# EAGLE library part MIC2026 (library BaseApp)
Digikey No:- __576-2137-ND__
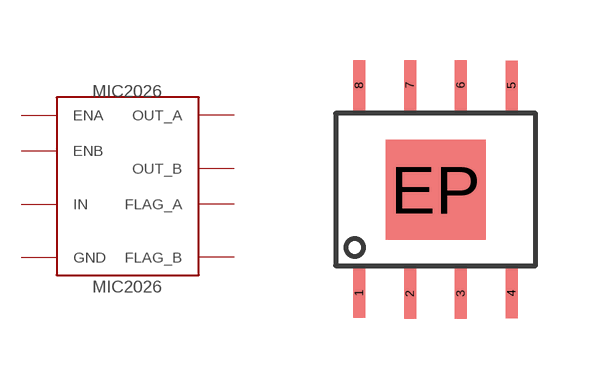
[diagram p6: symbol with the pads of SOP-8; footprint SOP-8]

Designator prefix MIC2026

## MIC2026  [SOP-8]
1  ENA
2  FLAG_A
3  FLAG_B
4  ENB
5  OUT_B
6  GND
7  IN
8  OUT_A

## Footprint SOP-8 (pad centres in mm)
smd 0.3 x 1.25: 1 -1.905,-2.585; 2 -0.635,-2.603; 3 0.635,-2.603; 4 1.905,-2.594; 5 1.905,2.596; 6 0.635,2.613; 7 -0.635,2.613; 8 -1.905,2.604
smd 2.5 x 2.5: EP 0,0